# Altium schematic symbol library SN754410.SchLib: 1 symbol
Pins are listed as number, name and electrical type; pins without a type are passive.

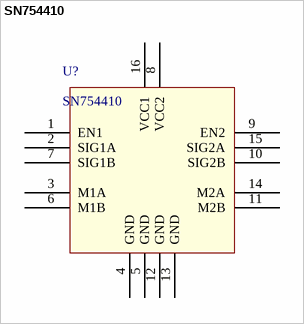
[diagram p0: symbol SN754410]

## SN754410
designator U?
footprint DIP16
pins: 1 EN1, 2 SIG1A, 3 M1A, 4 GND, 5 GND, 6 M1B, 7 SIG1B, 8 VCC2, 9 EN2, 10 SIG2B, 11 M2B, 12 GND, 13 GND, 14 M2A, 15 SIG2A, 16 VCC1